# Altium integrated library ON Semi ESD Protection Diodes & Arrays.IntLib: 286 symbols (part 3 of 8)
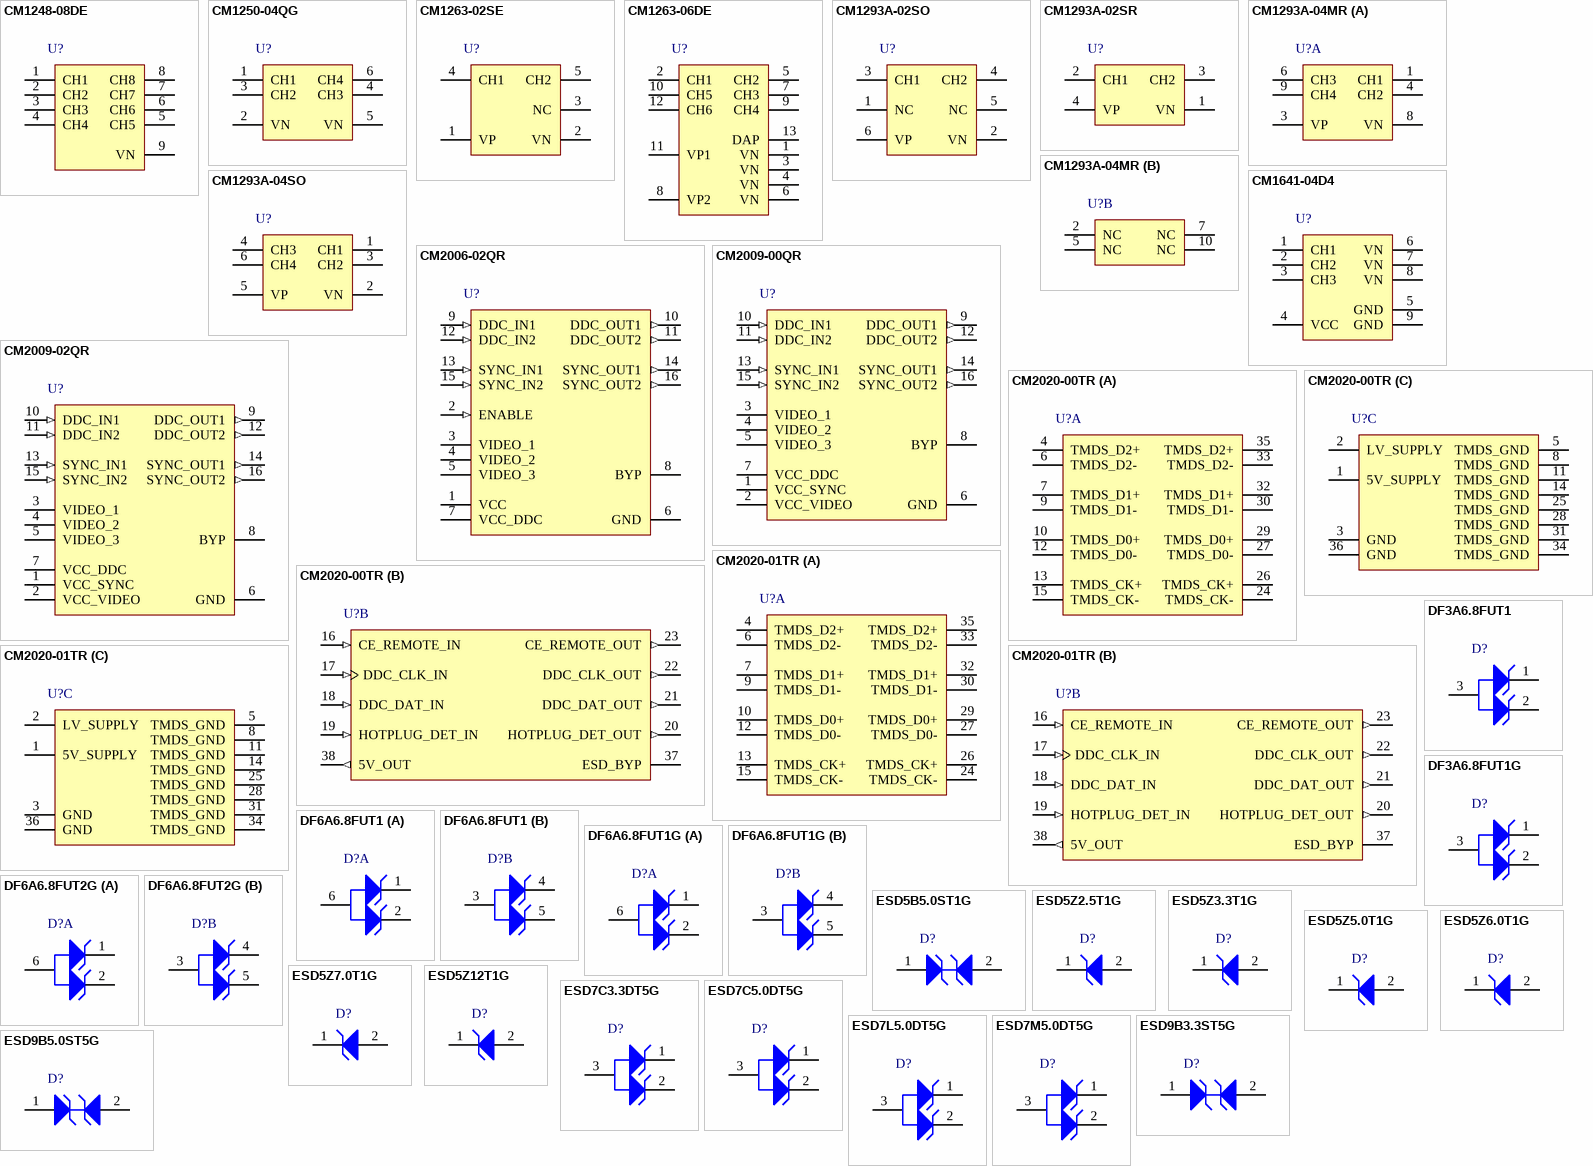
[diagram p9: symbols CM1248-08DE to ESD9B5.0ST5G]

## ESD5Z12T1G
designator D?
Transient Voltage Suppressor, Micro-Packaged Diode for ESD Protection, 2-Pin SOD-523, Pb-Free, Tape and Reel; Manufacturer: On Semiconductor; PartNumber: ESD5Z12T1G; Direction: Unidirectional; IR Max (uA): 0.01; Number of Lines: 1; PPK Max (W): 240; V(BR) Min (V): 14.1; VRWM Max (V): 12; DatasheetVersion: Rev. 10; PackageVersion: Rev. E, 09/2010; PackageReference: SOD-523-2-502-01; PackageDescription: 2-Pin SOD, Body 1.2 x 0.8 mm; Supplier 1: Digi-Key; Supplier Part Number 1: ESD5Z12T1GOSTR-ND; Supplier 2: Digi-Key; Supplier Part Number 2: ESD5Z12T1GOSCT-ND; Supplier 3: Digi-Key; Supplier Part Number 3: ESD5Z12T1GOSDKR-ND; Supplier 4: Farnell; Supplier Part Number 4: 2317796; Supplier 5: Newark; Supplier Part Number 5: 60K9544; Supplier 6: Newark; Supplier Part Number 6: 10N9402; Supplier 7: Mouser; Supplier Part Number 7: 863-ESD5Z12T1G; Packing: Tape and Reel; RoHS: Pb-Free; Mounting Technology: Surface Mount; ComponentLink1Description: Manufacturer URL; ComponentLink1URL: http://www.onsemi.com/; ComponentLink2Description: Datasheet; ComponentLink2URL: http://www.onsemi.cn/pub_link/Collateral/ESD5Z2.5T1-D.PDF; ComponentLink3Description: Package Specification; ComponentLink3URL: http://www.onsemi.com/pub_link/Collateral/502-01.PDF
footprint ONSC-SOD-523-2-502-01_V (SOD, 2-Leads, Body 1.2x0.8mm)
pins: 1 K, 2 A

## ESD7C3.3DT5G
designator D?
Transient Voltage Suppressor, Micro-Packaged Diode for ESD Protection, 3-Pin SOT-723, Pb-Free, Tape and Reel; Manufacturer: On Semiconductor; PartNumber: ESD7C3.3DT5G; C Max (pF): 13; Direction: Unidirectional; IR Max (uA): 1; Number of Lines: 2; V(BR) Min (V): 5; VRWM Max (V): 3.3; DatasheetVersion: Rev. 3; PackageVersion: Rev. D, 08/2009; PackageReference: SOT-723-3-631AA-01; PackageDescription: 3-Pin Small Outline Transistor, Body 1.2 x 0.8 mm, Pitch 0.4 mm; Supplier 1: Digi-Key; Supplier Part Number 1: ESD7C3.3DT5GOSTR-ND; Supplier 2: Digi-Key; Supplier Part Number 2: ESD7C3.3DT5GOSCT-ND; Supplier 3: Digi-Key; Supplier Part Number 3: ESD7C3.3DT5GOSDKR-ND; Supplier 4: Farnell; Supplier Part Number 4: 1468014; Supplier 5: Newark; Supplier Part Number 5: 50M3791; Supplier 6: Mouser; Supplier Part Number 6: 863-ESD7C3.3DT5G; Packing: Tape and Reel; RoHS: Pb-Free; Mounting Technology: Surface Mount; ComponentLink1Description: Manufacturer URL; ComponentLink1URL: http://www.onsemi.com/; ComponentLink2Description: Datasheet; ComponentLink2URL: http://www.onsemi.cn/pub_link/Collateral/ESD7C3.3D-D.PDF; ComponentLink3Description: Package Specification; ComponentLink3URL: http://www.onsemi.com/pub_link/Collateral/631AA.PDF
footprint ONSC-SOT-723-3-631AA-01_V (SOT223, 3-Leads, Body 1.2x0.8mm, Pitch 0.4mm)
pins: 1 K1, 2 K2, 3 A

## ESD7C5.0DT5G
designator D?
Transient Voltage Suppressor, Micro-Packaged Diode for ESD Protection, 3-Pin SOT-723, Pb-Free, Tape and Reel; Manufacturer: On Semiconductor; PartNumber: ESD7C5.0DT5G; C Max (pF): 6.2; Direction: Unidirectional; IR Max (uA): 0.5; Number of Lines: 2; V(BR) Min (V): 11; VRWM Max (V): 5; DatasheetVersion: Rev. 3; PackageVersion: Rev. D, 08/2009; PackageReference: SOT-723-3-631AA-01; PackageDescription: 3-Pin Small Outline Transistor, Body 1.2 x 0.8 mm, Pitch 0.4 mm; Supplier 1: Digi-Key; Supplier Part Number 1: ESD7C5.0DT5GOSTR-ND; Supplier 2: Digi-Key; Supplier Part Number 2: ESD7C5.0DT5GOSCT-ND; Supplier 3: Digi-Key; Supplier Part Number 3: ESD7C5.0DT5GOSDKR-ND; Supplier 4: Farnell; Supplier Part Number 4: 1468015; Supplier 5: Newark; Supplier Part Number 5: 50M3792; Supplier 6: Mouser; Supplier Part Number 6: 863-ESD7C5.0DT5G; Packing: Tape and Reel; RoHS: Pb-Free; Mounting Technology: Surface Mount; ComponentLink1Description: Manufacturer URL; ComponentLink1URL: http://www.onsemi.com/; ComponentLink2Description: Datasheet; ComponentLink2URL: http://www.onsemi.cn/pub_link/Collateral/ESD7C3.3D-D.PDF; ComponentLink3Description: Package Specification; ComponentLink3URL: http://www.onsemi.com/pub_link/Collateral/631AA.PDF
footprint ONSC-SOT-723-3-631AA-01_V (SOT223, 3-Leads, Body 1.2x0.8mm, Pitch 0.4mm)
pins: 1 K1, 2 K2, 3 A

## ESD7L5.0DT5G
designator D?
Transient Voltage Suppressor, ESD Protection Diode with Ultra-Low Capacitance, 3-Pin SOT-723, Pb-Free, Tape and Reel; Manufacturer: On Semiconductor; PartNumber: ESD7L5.0DT5G; Direction: Unidirectional; IR Max (uA): 1; Number of Lines: 2; V(BR) Min (V): 5.4; VRWM Max (V): 5; DatasheetVersion: Rev. 6; PackageVersion: Rev. D, 08/2009; PackageReference: SOT-723-3-631AA-01; PackageDescription: 3-Pin Small Outline Transistor, Body 1.2 x 0.8 mm, Pitch 0.4 mm; Supplier 1: Digi-Key; Supplier Part Number 1: ESD7L5.0DT5GOSTR-ND; Supplier 2: Digi-Key; Supplier Part Number 2: ESD7L5.0DT5GOSCT-ND; Supplier 3: Digi-Key; Supplier Part Number 3: ESD7L5.0DT5GOSDKR-ND; Supplier 4: Farnell; Supplier Part Number 4: 2101216; Supplier 5: Newark; Supplier Part Number 5: 01P0129; Supplier 6: Mouser; Supplier Part Number 6: 863-ESD7L5.0DT5G; Packing: Tape and Reel; RoHS: Pb-Free; Mounting Technology: Surface Mount; ComponentLink1Description: Manufacturer URL; ComponentLink1URL: http://www.onsemi.com/; ComponentLink2Description: Datasheet; ComponentLink2URL: http://www.onsemi.cn/pub_link/Collateral/ESD7L-D.PDF; ComponentLink3Description: Package Specification; ComponentLink3URL: http://www.onsemi.com/pub_link/Collateral/631AA.PDF
footprint ONSC-SOT-723-3-631AA-01_V (SOT223, 3-Leads, Body 1.2x0.8mm, Pitch 0.4mm)
pins: 1 K1, 2 K2, 3 A

## ESD7M5.0DT5G
designator D?
Transient Voltage Suppressor, ESD Protection Diode with Ultra-Low Capacitance, 3-Pin SOT-723, Pb-Free, Tape and Reel; Manufacturer: On Semiconductor; PartNumber: ESD7M5.0DT5G; Direction: Unidirectional; IR Max (uA): 1; Number of Lines: 2; V(BR) Min (V): 5.4; VRWM Max (V): 5; DatasheetVersion: Rev. 4; PackageVersion: Rev. D, 08/2009; PackageReference: SOT-723-3-631AA-01; PackageDescription: 3-Pin Small Outline Transistor, Body 1.2 x 0.8 mm, Pitch 0.4 mm; Supplier 1: Digi-Key; Supplier Part Number 1: ESD7M5.0DT5G-ND; Supplier 2: Newark; Supplier Part Number 2: 01P4983; Supplier 3: Mouser; Supplier Part Number 3: 863-ESD7M5.0DT5G; Packing: Tape and Reel; RoHS: Pb-Free; Mounting Technology: Surface Mount; ComponentLink1Description: Manufacturer URL; ComponentLink1URL: http://www.onsemi.com/; ComponentLink2Description: Datasheet; ComponentLink2URL: http://www.onsemi.cn/pub_link/Collateral/ESD7M5.0D-D.PDF; ComponentLink3Description: Package Specification; ComponentLink3URL: http://www.onsemi.com/pub_link/Collateral/631AA.PDF
footprint ONSC-SOT-723-3-631AA-01_V (SOT223, 3-Leads, Body 1.2x0.8mm, Pitch 0.4mm)
pins: 1 K1, 2 K2, 3 A

## ESD9B3.3ST5G
designator D?
Transient Voltage Suppressor, Micro-Packaged Diode for ESD Protection, 2-Pin SOD-923, Pb-Free, Tape and Reel; Manufacturer: On Semiconductor; PartNumber: ESD9B3.3ST5G; Direction: Bidirectional; IR Max (uA): 1; V(BR) Min (V): 5; VRWM Max (V): 3.3; DatasheetVersion: Rev. 2; PackageVersion: Rev. C, 03/2011; PackageReference: SOD-923-2-514AB-01; PackageDescription: 2-Pin SOD, Body 0.8 x 0.6 mm; Supplier 1: Digi-Key; Supplier Part Number 1: ESD9B3.3ST5GOSTR-ND; Supplier 2: Digi-Key; Supplier Part Number 2: ESD9B3.3ST5GOSCT-ND; Supplier 3: Digi-Key; Supplier Part Number 3: ESD9B3.3ST5GOSDKR-ND; Supplier 4: Farnell; Supplier Part Number 4: 2317522; Supplier 5: Farnell; Supplier Part Number 5: 2317797; Supplier 6: Newark; Supplier Part Number 6: 13P3801; Supplier 7: Mouser; Supplier Part Number 7: 863-ESD9B3.3ST5G; Number of Lines: 1; Packing: Tape and Reel; RoHS: Pb-Free; Mounting Technology: Surface Mount; ComponentLink1Description: Manufacturer URL; ComponentLink1URL: http://www.onsemi.com/; ComponentLink2Description: Datasheet; ComponentLink2URL: http://www.onsemi.cn/pub_link/Collateral/ESD9B-D.PDF; ComponentLink3Description: Package Specification; ComponentLink3URL: http://www.onsemi.com/pub_link/Collateral/514AB.PDF
footprint ONSC-SOD-923-2-514AB-01_V (SOD, 2-Leads, Body 0.8x0.6mm)
pins: 1 A1, 2 A2

## ESD9B5.0ST5G
designator D?
Transient Voltage Suppressor, Micro-Packaged Diode for ESD Protection, 2-Pin SOD-923, Pb-Free, Tape and Reel; Manufacturer: On Semiconductor; PartNumber: ESD9B5.0ST5G; Direction: Bidirectional; IR Max (uA): 1; V(BR) Min (V): 5.8; VRWM Max (V): 5; DatasheetVersion: Rev. 2; PackageVersion: Rev. C, 03/2011; PackageReference: SOD-923-2-514AB-01; PackageDescription: 2-Pin SOD, Body 0.8 x 0.6 mm; Supplier 1: Digi-Key; Supplier Part Number 1: ESD9B5.0ST5GOSTR-ND; Supplier 2: Digi-Key; Supplier Part Number 2: ESD9B5.0ST5GOSCT-ND; Supplier 3: Digi-Key; Supplier Part Number 3: ESD9B5.0ST5GOSDKR-ND; Supplier 4: Farnell; Supplier Part Number 4: 2101834; Supplier 5: Newark; Supplier Part Number 5: 50M3793; Supplier 6: Mouser; Supplier Part Number 6: 863-ESD9B5.0ST5G; Number of Lines: 1; Packing: Tape and Reel; RoHS: Pb-Free; Mounting Technology: Surface Mount; ComponentLink1Description: Manufacturer URL; ComponentLink1URL: http://www.onsemi.com/; ComponentLink2Description: Datasheet; ComponentLink2URL: http://www.onsemi.cn/pub_link/Collateral/ESD9B-D.PDF; ComponentLink3Description: Package Specification; ComponentLink3URL: http://www.onsemi.com/pub_link/Collateral/514AB.PDF
footprint ONSC-SOD-923-2-514AB-01_V (SOD, 2-Leads, Body 0.8x0.6mm)
pins: 1 A1, 2 A2

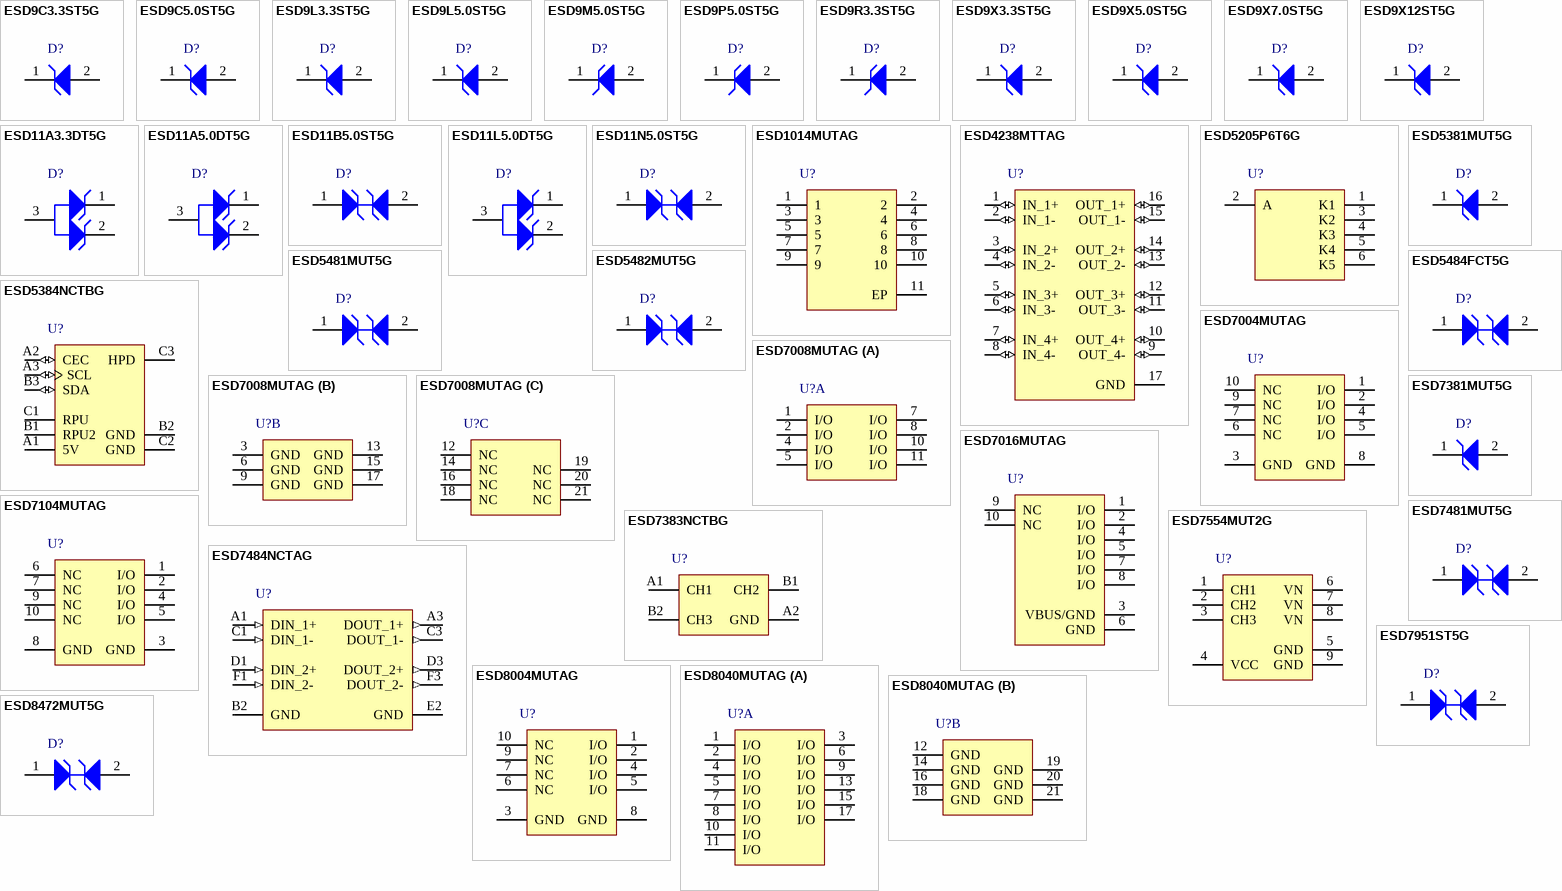
[diagram p2: symbols ESD9C3.3ST5G to ESD8472MUT5G]

## ESD9C3.3ST5G
designator D?
Transient Voltage Suppressor, Micro-Packaged Diode for ESD Protection, 2-Pin SOD-923, Pb-Free, Tape and Reel; Manufacturer: On Semiconductor; PartNumber: ESD9C3.3ST5G; C Max (pF): 13; Direction: Unidirectional; IR Max (uA): 1; V(BR) Min (V): 5; VRWM Max (V): 3.3; DatasheetVersion: Rev. 3; PackageVersion: Rev. C, 03/2011; PackageReference: SOD-923-2-514AB-01; PackageDescription: 2-Pin SOD, Body 0.8 x 0.6 mm; Supplier 1: Digi-Key; Supplier Part Number 1: ESD9C3.3ST5GOSTR-ND; Supplier 2: Digi-Key; Supplier Part Number 2: ESD9C3.3ST5GOSCT-ND; Supplier 3: Digi-Key; Supplier Part Number 3: ESD9C3.3ST5GOSDKR-ND; Supplier 4: Farnell; Supplier Part Number 4: 1468018; Supplier 5: Newark; Supplier Part Number 5: 50M3794; Supplier 6: Mouser; Supplier Part Number 6: 863-ESD9C3.3ST5G; Number of Lines: 1; Packing: Tape and Reel; RoHS: Pb-Free; Mounting Technology: Surface Mount; ComponentLink1Description: Manufacturer URL; ComponentLink1URL: http://www.onsemi.com/; ComponentLink2Description: Datasheet; ComponentLink2URL: http://www.onsemi.cn/pub_link/Collateral/ESD9C3.3S-D.PDF; ComponentLink3Description: Package Specification; ComponentLink3URL: http://www.onsemi.com/pub_link/Collateral/514AB.PDF
footprint ONSC-SOD-923-2-514AB-01_V (SOD, 2-Leads, Body 0.8x0.6mm)
pins: 1 K, 2 A

## ESD9C5.0ST5G
designator D?
Transient Voltage Suppressor, Micro-Packaged Diode for ESD Protection, 2-Pin SOD-923, Pb-Free, Tape and Reel; Manufacturer: On Semiconductor; PartNumber: ESD9C5.0ST5G; C Max (pF): 6.2; Direction: Unidirectional; IR Max (uA): 0.5; Number of Lines: 1; V(BR) Min (V): 11; VRWM Max (V): 5; DatasheetVersion: Rev. 3; PackageVersion: Rev. C, 03/2011; PackageReference: SOD-923-2-514AB-01; PackageDescription: 2-Pin SOD, Body 0.8 x 0.6 mm; Supplier 1: Digi-Key; Supplier Part Number 1: ESD9C5.0ST5GOSTR-ND; Supplier 2: Digi-Key; Supplier Part Number 2: ESD9C5.0ST5GOSCT-ND; Supplier 3: Digi-Key; Supplier Part Number 3: ESD9C5.0ST5GOSDKR-ND; Supplier 4: Farnell; Supplier Part Number 4: 1468019; Supplier 5: Newark; Supplier Part Number 5: 50M3795; Supplier 6: Mouser; Supplier Part Number 6: 863-ESD9C5.0ST5G; Packing: Tape and Reel; RoHS: Pb-Free; Mounting Technology: Surface Mount; ComponentLink1Description: Manufacturer URL; ComponentLink1URL: http://www.onsemi.com/; ComponentLink2Description: Datasheet; ComponentLink2URL: http://www.onsemi.cn/pub_link/Collateral/ESD9C3.3S-D.PDF; ComponentLink3Description: Package Specification; ComponentLink3URL: http://www.onsemi.com/pub_link/Collateral/514AB.PDF
footprint ONSC-SOD-923-2-514AB-01_V (SOD, 2-Leads, Body 0.8x0.6mm)
pins: 1 K, 2 A

## ESD9L3.3ST5G
designator D?
Transient Voltage Suppressor, ESD Protection Diode with Ultra-Low Capacitance, 2-Pin SOD-923, Pb-Free, Tape and Reel; Manufacturer: On Semiconductor; PartNumber: ESD9L3.3ST5G; C Max (pF): 0.9; Direction: Unidirectional; IR Max (uA): 1; V(BR) Min (V): 4.8; VRWM Max (V): 3.3; DatasheetVersion: Rev. 5; PackageVersion: Rev. C, 03/2011; PackageReference: SOD-923-2-514AB-01; PackageDescription: 2-Pin SOD, Body 0.8 x 0.6 mm; Supplier 1: Digi-Key; Supplier Part Number 1: ESD9L3.3ST5GOSTR-ND; Supplier 2: Digi-Key; Supplier Part Number 2: ESD9L3.3ST5GOSCT-ND; Supplier 3: Digi-Key; Supplier Part Number 3: ESD9L3.3ST5GOSDKR-ND; Supplier 4: Newark; Supplier Part Number 4: 01P4984; Supplier 5: Mouser; Supplier Part Number 5: 863-ESD9L3.3ST5G; Number of Lines: 1; Packing: Tape and Reel; RoHS: Pb-Free; Mounting Technology: Surface Mount; ComponentLink1Description: Manufacturer URL; ComponentLink1URL: http://www.onsemi.com/; ComponentLink2Description: Datasheet; ComponentLink2URL: http://www.onsemi.cn/pub_link/Collateral/ESD9L-D.PDF; ComponentLink3Description: Package Specification; ComponentLink3URL: http://www.onsemi.com/pub_link/Collateral/514AB.PDF
footprint ONSC-SOD-923-2-514AB-01_V (SOD, 2-Leads, Body 0.8x0.6mm)
pins: 1 K, 2 A

## ESD9L5.0ST5G
designator D?
Transient Voltage Suppressor, ESD Protection Diode with Ultra-Low Capacitance, 2-Pin SOD-923, Pb-Free, Tape and Reel; Manufacturer: On Semiconductor; PartNumber: ESD9L5.0ST5G; C Max (pF): 0.9; Direction: Unidirectional; IR Max (uA): 1; V(BR) Min (V): 5.4; VRWM Max (V): 5; DatasheetVersion: Rev. 5; PackageVersion: Rev. C, 03/2011; PackageReference: SOD-923-2-514AB-01; PackageDescription: 2-Pin SOD, Body 0.8 x 0.6 mm; Supplier 1: Digi-Key; Supplier Part Number 1: ESD9L5.0ST5GOSTR-ND; Supplier 2: Digi-Key; Supplier Part Number 2: ESD9L5.0ST5GOSCT-ND; Supplier 3: Digi-Key; Supplier Part Number 3: ESD9L5.0ST5GOSDKR-ND; Supplier 4: Farnell; Supplier Part Number 4: 1651639; Supplier 5: Farnell; Supplier Part Number 5: 1651639RL; Supplier 6: Newark; Supplier Part Number 6: 55M8768; Supplier 7: Mouser; Supplier Part Number 7: 863-ESD9L5.0ST5G; Number of Lines: 1; Packing: Tape and Reel; RoHS: Pb-Free; Mounting Technology: Surface Mount; ComponentLink1Description: Manufacturer URL; ComponentLink1URL: http://www.onsemi.com/; ComponentLink2Description: Datasheet; ComponentLink2URL: http://www.onsemi.cn/pub_link/Collateral/ESD9L-D.PDF; ComponentLink3Description: Package Specification; ComponentLink3URL: http://www.onsemi.com/pub_link/Collateral/514AB.PDF
footprint ONSC-SOD-923-2-514AB-01_V (SOD, 2-Leads, Body 0.8x0.6mm)
pins: 1 K, 2 A

## ESD9M5.0ST5G
designator D?
Transient Voltage Suppressor, ESD Protection Diode with Ultra-Low Capacitance, 2-Pin SOD-923, Pb-Free, Tape and Reel; Manufacturer: On Semiconductor; PartNumber: ESD9M5.0ST5G; C Max (pF): 2.5; Direction: Unidirectional; IR Max (uA): 1; V(BR) Min (V): 5.8; VRWM Max (V): 5; DatasheetVersion: Rev. 5; PackageVersion: Rev. C, 03/2011; PackageReference: SOD-923-2-514AB-01; PackageDescription: 2-Pin SOD, Body 0.8 x 0.6 mm; Supplier 1: Digi-Key; Supplier Part Number 1: ESD9M5.0ST5G-ND; Supplier 2: Mouser; Supplier Part Number 2: 863-ESD9M5.0ST5G; Number of Lines: 1; Packing: Tape and Reel; RoHS: Pb-Free; Mounting Technology: Surface Mount; ComponentLink1Description: Manufacturer URL; ComponentLink1URL: http://www.onsemi.com/; ComponentLink2Description: Datasheet; ComponentLink2URL: http://www.onsemi.cn/pub_link/Collateral/ESD9M5.0S-D.PDF; ComponentLink3Description: Package Specification; ComponentLink3URL: http://www.onsemi.com/pub_link/Collateral/514AB.PDF
footprint ONSC-SOD-923-2-514AB-01_V (SOD, 2-Leads, Body 0.8x0.6mm)
pins: 1 K, 2 A

## ESD9P5.0ST5G
designator D?
Transient Voltage Suppressor, ESD Protection Diode with Ultra-Low Capacitance, 2-Pin SOD-923, Pb-Free, Tape and Reel; Manufacturer: On Semiconductor; PartNumber: ESD9P5.0ST5G; C Max (pF): 1.3; Direction: Unidirectional; IR Max (uA): 1; V(BR) Min (V): 5.8; VRWM Max (V): 5; DatasheetVersion: Rev. 1; PackageVersion: Rev. C, 03/2011; PackageReference: SOD-923-2-514AB-01; PackageDescription: 2-Pin SOD, Body 0.8 x 0.6 mm; Supplier 1: Digi-Key; Supplier Part Number 1: ESD9P5.0ST5GOSTR-ND; Supplier 2: Digi-Key; Supplier Part Number 2: ESD9P5.0ST5GOSCT-ND; Supplier 3: Digi-Key; Supplier Part Number 3: ESD9P5.0ST5GOSDKR-ND; Supplier 4: Mouser; Supplier Part Number 4: 863-ESD9P5.0ST5G; Number of Lines: 1; Packing: Tape and Reel; RoHS: Pb-Free; Mounting Technology: Surface Mount; ComponentLink1Description: Manufacturer URL; ComponentLink1URL: http://www.onsemi.com/; ComponentLink2Description: Datasheet; ComponentLink2URL: http://www.onsemi.cn/pub_link/Collateral/ESD9P5.0S-D.PDF; ComponentLink3Description: Package Specification; ComponentLink3URL: http://www.onsemi.com/pub_link/Collateral/514AB.PDF
footprint ONSC-SOD-923-2-514AB-01_V (SOD, 2-Leads, Body 0.8x0.6mm)
pins: 1 K, 2 A

## ESD9R3.3ST5G
designator D?
Transient Voltage Suppressor, ESD Protection Diode with Ultra-Low Leakage, 2-Pin SOD-923, Pb-Free, Tape and Reel; Manufacturer: On Semiconductor; PartNumber: ESD9R3.3ST5G; C Max (pF): 0.9; Direction: Unidirectional; IR Max (uA): 0.001; Number of Lines: 1; V(BR) Min (V): 4.8; VRWM Max (V): 3.3; DatasheetVersion: Rev. 1; PackageVersion: Rev. C, 03/2011; PackageReference: SOD-923-2-514AB-01; PackageDescription: 2-Pin SOD, Body 0.8 x 0.6 mm; Supplier 1: Digi-Key; Supplier Part Number 1: ESD9R3.3ST5GOSTR-ND; Supplier 2: Digi-Key; Supplier Part Number 2: ESD9R3.3ST5GOSCT-ND; Supplier 3: Digi-Key; Supplier Part Number 3: ESD9R3.3ST5GOSDKR-ND; Supplier 4: Farnell; Supplier Part Number 4: 2101835; Supplier 5: Mouser; Supplier Part Number 5: 863-ESD9R3.3ST5G; Packing: Tape and Reel; RoHS: Pb-Free; Mounting Technology: Surface Mount; ComponentLink1Description: Manufacturer URL; ComponentLink1URL: http://www.onsemi.com/; ComponentLink2Description: Datasheet; ComponentLink2URL: http://www.onsemi.com/pub_link/Collateral/ESD9R3.3S-D.PDF; ComponentLink3Description: Package Specification; ComponentLink3URL: http://www.onsemi.com/pub_link/Collateral/514AB.PDF
footprint ONSC-SOD-923-2-514AB-01_V (SOD, 2-Leads, Body 0.8x0.6mm)
pins: 1 K, 2 A

## ESD9X3.3ST5G
designator D?
Transient Voltage Suppressor, Micro-Packaged Diode for ESD Protection, 2-Pin SOD-923, Pb-Free, Tape and Reel; Manufacturer: On Semiconductor; PartNumber: ESD9X3.3ST5G; Direction: Unidirectional; IR Max (uA): 2.5; Number of Lines: 1; V(BR) Min (V): 5; VRWM Max (V): 3.3; DatasheetVersion: Rev. 7; PackageVersion: Rev. E, 03/2011; PackageReference: SOD-923-2-514AA-01; PackageDescription: 2-Pin SOD, Body 0.8 x 0.6 mm; Supplier 1: Digi-Key; Supplier Part Number 1: ESD9X3.3ST5GOSTR-ND; Supplier 2: Digi-Key; Supplier Part Number 2: ESD9X3.3ST5GOSCT-ND; Supplier 3: Digi-Key; Supplier Part Number 3: ESD9X3.3ST5GOSDKR-ND; Supplier 4: Newark; Supplier Part Number 4: 96K3041; Supplier 5: Mouser; Supplier Part Number 5: 863-ESD9X3.3ST5G; Packing: Tape and Reel; RoHS: Pb-Free; Mounting Technology: Surface Mount; ComponentLink1Description: Manufacturer URL; ComponentLink1URL: http://www.onsemi.com/; ComponentLink2Description: Datasheet; ComponentLink2URL: http://www.onsemi.cn/pub_link/Collateral/ESD9X3.3ST5G-D.PDF; ComponentLink3Description: Package Specification; ComponentLink3URL: http://www.onsemi.com/pub_link/Collateral/514AA.PDF
footprint ONSC-SOD-923-2-514AA-01_V (SOD, 2-Leads, Body 0.8x0.6mm)
pins: 1 K, 2 A

## ESD9X5.0ST5G
designator D?
Transient Voltage Suppressor, Micro-Packaged Diode for ESD Protection, 2-Pin SOD-923, Pb-Free, Tape and Reel; Manufacturer: On Semiconductor; PartNumber: ESD9X5.0ST5G; Direction: Unidirectional; IR Max (uA): 1; V(BR) Min (V): 6.2; VRWM Max (V): 5; DatasheetVersion: Rev. 7; PackageVersion: Rev. E, 03/2011; PackageReference: SOD-923-2-514AA-01; PackageDescription: 2-Pin SOD, Body 0.8 x 0.6 mm; Supplier 1: Digi-Key; Supplier Part Number 1: ESD9X5.0ST5GOSTR-ND; Supplier 2: Digi-Key; Supplier Part Number 2: ESD9X5.0ST5GOSCT-ND; Supplier 3: Digi-Key; Supplier Part Number 3: ESD9X5.0ST5GOSDKR-ND; Supplier 4: Newark; Supplier Part Number 4: 02M9631; Supplier 5: Mouser; Supplier Part Number 5: 863-ESD9X5.0ST5G; Number of Lines: 1; Packing: Tape and Reel; RoHS: Pb-Free; Mounting Technology: Surface Mount; ComponentLink1Description: Manufacturer URL; ComponentLink1URL: http://www.onsemi.com/; ComponentLink2Description: Datasheet; ComponentLink2URL: http://www.onsemi.cn/pub_link/Collateral/ESD9X3.3ST5G-D.PDF; ComponentLink3Description: Package Specification; ComponentLink3URL: http://www.onsemi.com/pub_link/Collateral/514AA.PDF
footprint ONSC-SOD-923-2-514AA-01_V (SOD, 2-Leads, Body 0.8x0.6mm)
pins: 1 K, 2 A

## ESD9X7.0ST5G
designator D?
Transient Voltage Suppressor, Micro-Packaged Diode for ESD Protection, 2-Pin SOD-923, Pb-Free, Tape and Reel; Manufacturer: On Semiconductor; PartNumber: ESD9X7.0ST5G; Direction: Unidirectional; IR Max (uA): 0.1; Number of Lines: 1; V(BR) Min (V): 7.5; VRWM Max (V): 7; DatasheetVersion: Rev. 7; PackageVersion: Rev. E, 03/2011; PackageReference: SOD-923-2-514AA-01; PackageDescription: 2-Pin SOD, Body 0.8 x 0.6 mm; Supplier 1: Digi-Key; Supplier Part Number 1: ESD9X7.0ST5G-ND; Supplier 2: Newark; Supplier Part Number 2: 13P3803; Supplier 3: Mouser; Supplier Part Number 3: 863-ESD9X7.0ST5G; Packing: Tape and Reel; RoHS: Pb-Free; Mounting Technology: Surface Mount; ComponentLink1Description: Manufacturer URL; ComponentLink1URL: http://www.onsemi.com/; ComponentLink2Description: Datasheet; ComponentLink2URL: http://www.onsemi.cn/pub_link/Collateral/ESD9X3.3ST5G-D.PDF; ComponentLink3Description: Package Specification; ComponentLink3URL: http://www.onsemi.com/pub_link/Collateral/514AA.PDF
footprint ONSC-SOD-923-2-514AA-01_V (SOD, 2-Leads, Body 0.8x0.6mm)
pins: 1 K, 2 A

## ESD9X12ST5G
designator D?
Transient Voltage Suppressor, Micro-Packaged Diode for ESD Protection, 2-Pin SOD-923, Pb-Free, Tape and Reel; Manufacturer: On Semiconductor; PartNumber: ESD9X12ST5G; Direction: Unidirectional; IR Max (uA): 1; PPK Max (W): 140; V(BR) Min (V): 13.5; VRWM Max (V): 12; DatasheetVersion: Rev. 7; PackageVersion: Rev. E, 03/2011; PackageReference: SOD-923-2-514AA-01; PackageDescription: 2-Pin SOD, Body 0.8 x 0.6 mm; Supplier 1: Digi-Key; Supplier Part Number 1: ESD9X12ST5GOSTR-ND; Supplier 2: Digi-Key; Supplier Part Number 2: ESD9X12ST5GOSCT-ND; Supplier 3: Digi-Key; Supplier Part Number 3: ESD9X12ST5GOSDKR-ND; Supplier 4: Newark; Supplier Part Number 4: 02M9630; Supplier 5: Mouser; Supplier Part Number 5: 863-ESD9X12ST5G; Number of Lines: 1; Packing: Tape and Reel; RoHS: Pb-Free; Mounting Technology: Surface Mount; ComponentLink1Description: Manufacturer URL; ComponentLink1URL: http://www.onsemi.com/; ComponentLink2Description: Datasheet; ComponentLink2URL: http://www.onsemi.com/pub_link/Collateral/ESD9X3.3ST5G-D.PDF; ComponentLink3Description: Package Specification; ComponentLink3URL: http://www.onsemi.com/pub_link/Collateral/514AA.PDF
footprint ONSC-SOD-923-2-514AA-01_V (SOD, 2-Leads, Body 0.8x0.6mm)
pins: 1 K, 2 A

## ESD11A3.3DT5G
designator D?
Transient Voltage Suppressor, ESD Protection Diode, 3-Pin SOT-1123, Pb-Free, Tape and Reel; Manufacturer: On Semiconductor; PartNumber: ESD11A3.3DT5G; C Max (pF): 35; Direction: Unidirectional; IR Max (uA): 1; Number of Lines: 2; V(BR) Min (V): 5.2; VRWM Max (V): 3.3; DatasheetVersion: Rev. 3; PackageVersion: Rev. C, 11/2011; PackageReference: SOT-1123-3-524AA; PackageDescription: 3-Pin Small Outline Transistor, Body 0.8 x 0.6 mm, Pitch 0.375 mm; Supplier 1: Digi-Key; Supplier Part Number 1: ESD11A3.3DT5G-ND; Supplier 2: Mouser; Supplier Part Number 2: 863-ESD11A3.3DT5G; Packing: Tape and Reel; RoHS: Pb-Free; Mounting Technology: Surface Mount; ComponentLink1Description: Manufacturer URL; ComponentLink1URL: http://www.onsemi.com/; ComponentLink2Description: Datasheet; ComponentLink2URL: http://www.onsemi.cn/pub_link/Collateral/ESD11A3.3D-D.PDF; ComponentLink3Description: Package Specification; ComponentLink3URL: http://www.onsemi.cn/pub_link/Collateral/524AA.PDF
footprint ONSC-SOT-1123-3-524AA_V (SOT223, 3-Leads, Body 0.8x0.6mm, Pitch 0.38mm)
pins: 1 K1, 2 K2, 3 A

## ESD11A5.0DT5G
designator D?
Transient Voltage Suppressor, ESD Protection Diode, 3-Pin SOT-1123, Pb-Free, Tape and Reel; Manufacturer: On Semiconductor; PartNumber: ESD11A5.0DT5G; C Max (pF): 30; Direction: Unidirectional; IR Max (uA): 0.1; Number of Lines: 2; V(BR) Min (V): 6.2; VRWM Max (V): 5; DatasheetVersion: Rev. 3; PackageVersion: Rev. C, 11/2011; PackageReference: SOT-1123-3-524AA; PackageDescription: 3-Pin Small Outline Transistor, Body 0.8 x 0.6 mm, Pitch 0.375 mm; Supplier 1: Digi-Key; Supplier Part Number 1: ESD11A5.0DT5G-ND; Supplier 2: Newark; Supplier Part Number 2: 71R5317; Supplier 3: Mouser; Supplier Part Number 3: 863-ESD11A5.0DT5G; Packing: Tape and Reel; RoHS: Pb-Free; Mounting Technology: Surface Mount; ComponentLink1Description: Manufacturer URL; ComponentLink1URL: http://www.onsemi.com/; ComponentLink2Description: Datasheet; ComponentLink2URL: http://www.onsemi.cn/pub_link/Collateral/ESD11A3.3D-D.PDF; ComponentLink3Description: Package Specification; ComponentLink3URL: http://www.onsemi.cn/pub_link/Collateral/524AA.PDF
footprint ONSC-SOT-1123-3-524AA_V (SOT223, 3-Leads, Body 0.8x0.6mm, Pitch 0.38mm)
pins: 1 K1, 2 K2, 3 A

## ESD11B5.0ST5G
designator D?
Transient Voltage Suppressor, Micro-Packaged Diode for ESD Protection, 2-Pin DSN, Pb-Free, Tape and Reel; Manufacturer: On Semiconductor; PartNumber: ESD11B5.0ST5G; C Max (pF): 13.5; Direction: Bidirectional; IR Max (uA): 1; V(BR) Min (V): 5.8; VRWM Max (V): 5; DatasheetVersion: Rev. 6; PackageVersion: Rev. A, 11/2011; PackageReference: DSN-2-152AA; PackageDescription: 2-Pin Micro Molded Package, Body 0.3 x 0.6 mm, Pitch 0.4 mm; Supplier 1: Digi-Key; Supplier Part Number 1: ESD11B5.0ST5GOSTR-ND; Supplier 2: Digi-Key; Supplier Part Number 2: ESD11B5.0ST5GOSCT-ND; Supplier 3: Digi-Key; Supplier Part Number 3: ESD11B5.0ST5GOSDKR-ND; Supplier 4: Mouser; Supplier Part Number 4: 863-ESD11B5.0ST5G; Number of Lines: 1; Packing: Tape and Reel; RoHS: Pb-Free; Mounting Technology: Surface Mount; ComponentLink1Description: Manufacturer URL; ComponentLink1URL: http://www.onsemi.com/; ComponentLink2Description: Datasheet; ComponentLink2URL: http://www.onsemi.cn/pub_link/Collateral/ESD11B-D.PDF; ComponentLink3Description: Package Specification; ComponentLink3URL: http://www.onsemi.com/pub_link/Collateral/152AA.PDF
footprint ONSC-DSN-2-152AA_V (DSN, 2-Leads, Body 0.6x0.3mm, Pitch 0.47mm)
pins: 1 A1, 2 A2

## ESD11L5.0DT5G
designator D?
Transient Voltage Suppressor, ESD Protection Diode with Ultra-Low Capacitance, 3-Pin SOT-1123, Pb-Free, Tape and Reel; Manufacturer: On Semiconductor; PartNumber: ESD11L5.0DT5G; Direction: Unidirectional; IR Max (uA): 1; Number of Lines: 2; V(BR) Min (V): 5.4; VRWM Max (V): 5; DatasheetVersion: Rev. 3; PackageVersion: Rev. C, 11/2011; PackageReference: SOT-1123-3-524AA; PackageDescription: 3-Pin Small Outline Transistor, Body 0.8 x 0.6 mm, Pitch 0.375 mm; Supplier 1: Digi-Key; Supplier Part Number 1: ESD11L5.0DT5G-ND; Supplier 2: Newark; Supplier Part Number 2: 13P3800; Supplier 3: Mouser; Supplier Part Number 3: 863-ESD11L5.0DT5G; Packing: Tape and Reel; RoHS: Pb-Free; Mounting Technology: Surface Mount; ComponentLink1Description: Manufacturer URL; ComponentLink1URL: http://www.onsemi.com/; ComponentLink2Description: Datasheet; ComponentLink2URL: http://www.onsemi.cn/pub_link/Collateral/ESD11L5.0D-D.PDF; ComponentLink3Description: Package Specification; ComponentLink3URL: http://www.onsemi.cn/pub_link/Collateral/524AA.PDF
footprint ONSC-SOT-1123-3-524AA_V (SOT223, 3-Leads, Body 0.8x0.6mm, Pitch 0.38mm)
pins: 1 K1, 2 K2, 3 A

## ESD11N5.0ST5G
designator D?
Transient Voltage Suppressor, Micro-Packaged Diode for ESD Protection, 2-Pin DSN, Pb-Free, Tape and Reel; Manufacturer: On Semiconductor; PartNumber: ESD11N5.0ST5G; C Max (pF): 0.9; Direction: Bidirectional; IR Max (uA): 1; V(BR) Min (V): 5.8; VRWM Max (V): 5; DatasheetVersion: Rev. 4; PackageVersion: Rev. A, 11/2011; PackageReference: DSN-2-152AA; PackageDescription: 2-Pin Micro Molded Package, Body 0.3 x 0.6 mm, Pitch 0.4 mm; Supplier 1: Digi-Key; Supplier Part Number 1: ESD11N5.0ST5GOSTR-ND; Supplier 2: Digi-Key; Supplier Part Number 2: ESD11N5.0ST5GOSCT-ND; Supplier 3: Digi-Key; Supplier Part Number 3: ESD11N5.0ST5GOSDKR-ND; Supplier 4: Newark; Supplier Part Number 4: 15R4142; Supplier 5: Mouser; Supplier Part Number 5: 863-ESD11N5.0ST5G; Number of Lines: 1; Packing: Tape and Reel; RoHS: Pb-Free; Mounting Technology: Surface Mount; ComponentLink1Description: Manufacturer URL; ComponentLink1URL: http://www.onsemi.com/; ComponentLink2Description: Datasheet; ComponentLink2URL: http://www.onsemi.cn/pub_link/Collateral/ESD11N5.0S-D.PDF; ComponentLink3Description: Package Specification; ComponentLink3URL: http://www.onsemi.com/pub_link/Collateral/152AA.PDF
footprint ONSC-DSN-2-152AA_V (DSN, 2-Leads, Body 0.6x0.3mm, Pitch 0.47mm)
pins: 1 A1, 2 A2

## ESD1014MUTAG
designator U?
Low Capacitance ESD Protection Array for High Speed Data Lines Protection, 10-Pin UDFN, Pb-Free, Tape and Reel; Manufacturer: On Semiconductor; PartNumber: ESD1014MUTAG; Direction: Bidirectional; IR Max (uA): 5; Number of Lines: 4; PPK Max (W): 450; VRWM Max (V): 3.3; DatasheetVersion: Rev. 5; PackageVersion: Rev. B, 10/2012; PackageReference: UDFN-10-517AN; PackageDescription: 10-Pin Small Outline No-Lead, Body 2.6 x 2.6 mm, Pitch 0.5 mm; Supplier 1: Digi-Key; Supplier Part Number 1: ESD1014MUTAGOSTR-ND; Supplier 2: Digi-Key; Supplier Part Number 2: ESD1014MUTAGOSCT-ND; Supplier 3: Digi-Key; Supplier Part Number 3: ESD1014MUTAGOSDKR-ND; Supplier 4: Farnell; Supplier Part Number 4: 1961707; Supplier 5: Newark; Supplier Part Number 5: 52T7798; Supplier 6: Mouser; Supplier Part Number 6: 863-ESD1014MUTAG; Packing: Tape and Reel; RoHS: Pb-Free; V(BR) Min (V): 5; Mounting Technology: Surface Mount; ComponentLink1Description: Manufacturer URL; ComponentLink1URL: http://www.onsemi.com/; ComponentLink2Description: Datasheet; ComponentLink2URL: http://www.onsemi.cn/pub_link/Collateral/ESD1014-D.PDF; ComponentLink3Description: Package Specification; ComponentLink3URL: http://www.onsemi.cn/pub_link/Collateral/517AN.PDF
footprint ONSC-UDFN-10-517AN_V (SON, 10-Leads, Body 2.6x2.6mm, Pitch 0.5mm, Thermal Pad 2.25x1.42mm)
pins: 1, 2, 3, 4, 5, 6, 7, 8, 9, 10, 11 EP

## ESD4238MTTAG
designator U?
PicoGuard(R) XS Clamp Array with ESD Protection, 16-Pin WDFN, Pb-Free, Tape and Reel; Manufacturer: On Semiconductor; PartNumber: ESD4238MTTAG; Direction: Unidirectional; Number of Lines: 8; DatasheetVersion: Rev. 0; PackageVersion: Rev. O, 07/2010; PackageReference: WDFN-16-511AU-01; PackageDescription: 16-Pin Small Outline No-Lead, Body 4 x 1.6 mm, Pitch 0.5 mm; Supplier 1: Digi-Key; Supplier Part Number 1: ESD4238MTTAG-ND; Supplier 2: Mouser; Supplier Part Number 2: 863-ESD4238MTTAG; Packing: Tape and Reel; RoHS: Pb-Free; Mounting Technology: Surface Mount; ComponentLink1Description: Manufacturer URL; ComponentLink1URL: http://www.onsemi.com/; ComponentLink2Description: Datasheet; ComponentLink2URL: http://www.onsemi.cn/pub_link/Collateral/ESD4238-D.PDF; ComponentLink3Description: Package Specification; ComponentLink3URL: http://www.onsemi.cn/pub_link/Collateral/511AU.PDF
footprint ONSC-WDFN-16-511AU-01_V (SON, 16-Leads, Body 4x1.6mm, Pitch 0.5mm)
pins: 1 IN_1+ (io) "Bidirectional Clamp to ASIC (inside system)", 2 IN_1- (io) "Bidirectional Clamp to ASIC (inside system)", 3 IN_2+ (io) "Bidirectional Clamp to ASIC (inside system)", 4 IN_2- (io) "Bidirectional Clamp to ASIC (inside system)", 5 IN_3+ (io) "Bidirectional Clamp to ASIC (inside system)", 6 IN_3- (io) "Bidirectional Clamp to ASIC (inside system)", 7 IN_4+ (io) "Bidirectional Clamp to ASIC (inside system)", 8 IN_4- (io) "Bidirectional Clamp to ASIC (inside system)", 9 OUT_4- (io) "Bidirectional Clamp to Connector (outside system)", 10 OUT_4+ (io) "Bidirectional Clamp to Connector (outside system)", 11 OUT_3- (io) "Bidirectional Clamp to Connector (outside system)", 12 OUT_3+ (io) "Bidirectional Clamp to Connector (outside system)", 13 OUT_2- (io) "Bidirectional Clamp to Connector (outside system)", 14 OUT_2+ (io) "Bidirectional Clamp to Connector (outside system)", 15 OUT_1- (io) "Bidirectional Clamp to Connector (outside system)", 16 OUT_1+ (io) "Bidirectional Clamp to Connector (outside system)", 17 GND (power) "Ground return to shield"

## ESD5205P6T6G
designator U?
Transient Voltage Suppressor, Low Capacitance ESD Protection Diode for High Speed Data Line, 6-Pin SOT-963, Pb-Free, Tape and Reel; Manufacturer: On Semiconductor; PartNumber: ESD5205P6T6G; C Max (pF): 9; Direction: Bidirectional; IR Max (uA): 1; Number of Lines: 5; PPK Max (W): 18; V(BR) Min (V): 5.5; DatasheetVersion: Rev. 0; PackageVersion: Rev. E, 02/2010; PackageReference: SOT-963-6-527AD-01; PackageDescription: 6-Pin Small Outline Transistor, Body 1 x 0.8 mm, Pitch 0.35 mm; Supplier 1: Digi-Key; Supplier Part Number 1: ESD5205P6T6G-ND; Supplier 2: Newark; Supplier Part Number 2: 76T6018; Supplier 3: Mouser; Supplier Part Number 3: 863-ESD5205P6T6G; Packing: Tape and Reel; RoHS: Pb-Free; VRWM Max (V): 5; Mounting Technology: Surface Mount; ComponentLink1Description: Manufacturer URL; ComponentLink1URL: http://www.onsemi.com/; ComponentLink2Description: Datasheet; ComponentLink2URL: http://www.onsemi.cn/pub_link/Collateral/ESD5205-D.PDF; ComponentLink3Description: Package Specification; ComponentLink3URL: http://www.onsemi.cn/pub_link/Collateral/527AD.PDF
footprint ONSC-SOT-963-6-527AD-01_V (SOT23, 6-Leads, Body 1x0.8mm, Pitch 0.35mm)
pins: 1 K1, 2 A, 3 K2, 4 K3, 5 K4, 6 K5

## ESD5381MUT5G
designator D?
Transient Voltage Suppressor, Micro-Packaged Diode for ESD Protection, 2-Pin X3DFN, Pb-Free, Tape and Reel; Manufacturer: On Semiconductor; PartNumber: ESD5381MUT5G; C Max (pF): 13; Direction: Unidirectional; IR Max (uA): 0.1; Number of Lines: 1; V(BR) Min (V): 6.1; VRWM Max (V): 3; DatasheetVersion: Rev. 2; PackageVersion: Rev. O, 04/2011; PackageReference: X3DFN-2-152AF-01; PackageDescription: 2-Pin Small Outline No-Lead, Body 0.62 x 0.32 mm, Pitch 0.355 mm; Packing: Tape and Reel; RoHS: Pb-Free; Mounting Technology: Surface Mount; ComponentLink1Description: Manufacturer URL; ComponentLink1URL: http://www.onsemi.com/; ComponentLink2Description: Datasheet; ComponentLink2URL: http://www.onsemi.cn/pub_link/Collateral/ESD5381-D.PDF; ComponentLink3Description: Package Specification; ComponentLink3URL: http://www.onsemi.cn/pub_link/Collateral/152AF.PDF
footprint ONSC-X3DFN-2-152AF-01_V (Molded, 2-Leads, Body 0.62x0.32mm)
pins: 1 K, 2 A

## ESD5384NCTBG
designator U?
5-Line HDMI Control Line, ESD Protection, 9-Pin WLCSP, Pb-Free, Tape and Reel; Manufacturer: On Semiconductor; PartNumber: ESD5384NCTBG; Direction: Unidirectional; Number of Lines: 5; V(BR) Min (V): 6; DatasheetVersion: Rev. 0; PackageVersion: Rev. O, 10/2010; PackageReference: WLCSP-9-567CX-01; PackageDescription: 9-Ball Wafer Level Chip Scale Package, Body 1.14 x 1.14 mm, Pitch 0.4 mm; Supplier 1: Digi-Key; Supplier Part Number 1: ESD5384NCTBG-ND; Supplier 2: Mouser; Supplier Part Number 2: 863-ESD5384NCTBG; Packing: Tape and Reel; RoHS: Pb-Free; Mounting Technology: Surface Mount; ComponentLink1Description: Manufacturer URL; ComponentLink1URL: http://www.onsemi.com/; ComponentLink2Description: Datasheet; ComponentLink2URL: http://www.onsemi.cn/pub_link/Collateral/ESD5384-D.PDF; ComponentLink3Description: Package Specification; ComponentLink3URL: http://www.onsemi.cn/pub_link/Collateral/567CX.PDF
footprint ONSC-WLCSP-9-567CX-01 (BGA, 9-Balls, Body 1.14x1.14mm, Pitch 0.4mm)
pins: A1 5V (power), A2 CEC (io), A3 SCL (io), B1 RPU2 (power), B2 GND (power), B3 SDA (io), C1 RPU (power), C2 GND (power), C3 HPD

## ESD5481MUT5G
designator D?
Transient Voltage Suppressor, Micro-Packaged Diode for ESD Protection, 2-Pin X3DFN, Pb-Free, Tape and Reel; Manufacturer: On Semiconductor; PartNumber: ESD5481MUT5G; C Max (pF): 15; Direction: Bidirectional; IR Max (uA): 1; V(BR) Min (V): 5.7; VRWM Max (V): 5; DatasheetVersion: Rev. 1; PackageVersion: Rev. O, 04/2011; PackageReference: X3DFN-2-152AF-01; PackageDescription: 2-Pin Small Outline No-Lead, Body 0.62 x 0.32 mm, Pitch 0.355 mm; Supplier 1: Newark; Supplier Part Number 1: 07W6862; Supplier 2: Mouser; Supplier Part Number 2: 863-ESD5481MUT5G; Number of Lines: 1; Packing: Tape and Reel; RoHS: Pb-Free; Mounting Technology: Surface Mount; ComponentLink1Description: Manufacturer URL; ComponentLink1URL: http://www.onsemi.com/; ComponentLink2Description: Datasheet; ComponentLink2URL: http://www.onsemi.cn/pub_link/Collateral/ESD5481-D.PDF; ComponentLink3Description: Package Specification; ComponentLink3URL: http://www.onsemi.cn/pub_link/Collateral/152AF.PDF
footprint ONSC-X3DFN-2-152AF-01_V (Molded, 2-Leads, Body 0.62x0.32mm)
pins: 1 A1, 2 A2

## ESD5482MUT5G
designator D?
Transient Voltage Suppressor, Micro-Packaged Diode for ESD Protection, 2-Pin X3DFN, Pb-Free, Tape and Reel; Manufacturer: On Semiconductor; PartNumber: ESD5482MUT5G; C Max (pF): 7; Direction: Bidirectional; IR Max (uA): 0.05; Number of Lines: 1; V(BR) Min (V): 5; VRWM Max (V): 3.3; DatasheetVersion: Rev. 0; PackageVersion: Rev. O, 04/2011; PackageReference: X3DFN-2-152AF-01; PackageDescription: 2-Pin Small Outline No-Lead, Body 0.62 x 0.32 mm, Pitch 0.355 mm; Supplier 1: Newark; Supplier Part Number 1: 56W5219; Supplier 2: Mouser; Supplier Part Number 2: 863-ESD5482MUT5G; Packing: Tape and Reel; RoHS: Pb-Free; Mounting Technology: Surface Mount; ComponentLink1Description: Manufacturer URL; ComponentLink1URL: http://www.onsemi.com/; ComponentLink2Description: Datasheet; ComponentLink2URL: http://www.onsemi.cn/pub_link/Collateral/ESD5482-D.PDF; ComponentLink3Description: Package Specification; ComponentLink3URL: http://www.onsemi.cn/pub_link/Collateral/152AF.PDF
footprint ONSC-X3DFN-2-152AF-01_V (Molded, 2-Leads, Body 0.62x0.32mm)
pins: 1 A1, 2 A2

## ESD5484FCT5G
designator D?
Transient Voltage Suppressor, Micro-Packaged Diode for ESD Protection, 2-Pin WLCSP, Pb-Free, Tape and Reel; Manufacturer: On Semiconductor; PartNumber: ESD5484FCT5G; C Max (pF): 45; Direction: Bidirectional; IR Max (uA): 0.1; Number of Lines: 1; V(BR) Min (V): 6; VRWM Max (V): 5; DatasheetVersion: Rev. 2; PackageVersion: Rev. A, 10/2013; PackageReference: WLCSP-2-567AV-01; PackageDescription: 2-Ball Wafer Level Chip Scale Package, Body 0.6 x 0.3 mm, Pitch 0.36 mm; Supplier 1: Newark; Supplier Part Number 1: 72W1860; Supplier 2: Mouser; Supplier Part Number 2: 863-ESD5484FCT5G; Packing: Tape and Reel; RoHS: Pb-Free; Mounting Technology: Surface Mount; ComponentLink1Description: Manufacturer URL; ComponentLink1URL: http://www.onsemi.com/; ComponentLink2Description: Datasheet; ComponentLink2URL: http://www.onsemi.cn/pub_link/Collateral/ESD5484-D.PDF; ComponentLink3Description: Package Specification; ComponentLink3URL: http://www.onsemi.com/pub_link/Collateral/567AV.PDF
footprint ONSC-WLCSP-2-567AV-01_V (Molded, 2-Leads, Body 0.6x0.3mm, Pitch 0.48mm)
pins: 1 A1, 2 A2

## ESD7004MUTAG
designator U?
Transient Voltage Suppressor, Low Capacitance ESD Protection Diode for High Speed Data Line, 10-Pin UDFN, Pb-Free, Tape and Reel; Manufacturer: On Semiconductor; PartNumber: ESD7004MUTAG; Direction: Unidirectional; IR Max (uA): 1; Number of Lines: 4; V(BR) Min (V): 5.5; VRWM Max (V): 5; DatasheetVersion: Rev. 3; PackageVersion: Rev. O, 11/2009; PackageReference: UDFN-10-517BB-01; PackageDescription: 10-Pin Small Outline No-Lead, Body 2.5 x 1 mm, Pitch 0.5 mm; Supplier 1: Digi-Key; Supplier Part Number 1: ESD7004MUTAGOSTR-ND; Supplier 2: Digi-Key; Supplier Part Number 2: ESD7004MUTAGOSCT-ND; Supplier 3: Digi-Key; Supplier Part Number 3: ESD7004MUTAGOSDKR-ND; Supplier 4: Farnell; Supplier Part Number 4: 1961708; Supplier 5: Newark; Supplier Part Number 5: 52T7799; Supplier 6: Mouser; Supplier Part Number 6: 863-ESD7004MUTAG; Packing: Tape and Reel; RoHS: Pb-Free; Mounting Technology: Surface Mount; ComponentLink1Description: Manufacturer URL; ComponentLink1URL: http://www.onsemi.com/; ComponentLink2Description: Datasheet; ComponentLink2URL: http://www.onsemi.cn/pub_link/Collateral/ESD7004-D.PDF; ComponentLink3Description: Package Specification; ComponentLink3URL: http://www.onsemi.com/pub_link/Collateral/517BB.PDF
footprint ONSC-UDFN-10-517BB-01_V (SON, 10-Leads, Body 2.5x1mm, Pitch 0.5mm)
pins: 1 I/O, 2 I/O, 3 GND (power), 4 I/O, 5 I/O, 6 NC, 7 NC, 8 GND (power), 9 NC, 10 NC

## ESD7008MUTAG
designator U?
Transient Voltage Suppressor, Low Capacitance ESD Protection for High Speed Data, 18-Pin UDFN, Pb-Free, Tape and Reel; Manufacturer: On Semiconductor; PartNumber: ESD7008MUTAG; Direction: Bidirectional; IR Max (uA): 1; Number of Lines: 8; V(BR) Min (V): 5.5; VRWM Max (V): 5; DatasheetVersion: Rev. 4; PackageVersion: Rev. A, 12/2012; PackageReference: UDFN-18-517BV; PackageDescription: 18-Pin Small Outline No-Lead, Body 5.5 x 1.5 mm; Supplier 1: Digi-Key; Supplier Part Number 1: ESD7008MUTAG-ND; Supplier 2: Newark; Supplier Part Number 2: 65T1227; Supplier 3: Mouser; Supplier Part Number 3: 863-ESD7008MUTAG; Packing: Tape and Reel; RoHS: Pb-Free; Mounting Technology: Surface Mount; ComponentLink1Description: Manufacturer URL; ComponentLink1URL: http://www.onsemi.com/; ComponentLink2Description: Datasheet; ComponentLink2URL: http://www.onsemi.cn/pub_link/Collateral/ESD7008-D.PDF; ComponentLink3Description: Package Specification; ComponentLink3URL: http://www.onsemi.cn/pub_link/Collateral/517BV.PDF
footprint ONSC-UDFN-18-517BV_V (SON, 18-Leads, Body 5.5x1.5mm)
part A pins: 1 I/O, 2 I/O, 4 I/O, 5 I/O, 7 I/O, 8 I/O, 10 I/O, 11 I/O
part B pins: 3 GND (power), 6 GND (power), 9 GND (power), 13 GND (power), 15 GND (power), 17 GND (power)
part C pins: 12 NC, 14 NC, 16 NC, 18 NC, 19 NC, 20 NC, 21 NC

## ESD7016MUTAG
designator U?
Low Capacitance ESD Protection USB 3.0, 8-Pin UDFN, Pb-Free, Tape and Reel; Manufacturer: On Semiconductor; PartNumber: ESD7016MUTAG; C Max (pF): 0.2; Direction: Bidirectional; IR Max (uA): 1; Number of Lines: 6; V(BR) Min (V): 5.5; VRWM Max (V): 5; DatasheetVersion: Rev. 3; PackageVersion: Rev. O, 09/2011; PackageReference: UDFN-8-517CB; PackageDescription: 8-Pin Small Outline No-Lead, Body 3.3 x 1 mm, Pitch 0.4 mm; Supplier 1: Newark; Supplier Part Number 1: 07W3518; Supplier 2: Mouser; Supplier Part Number 2: 863-ESD7016MUTAG; Packing: Tape and Reel; RoHS: Pb-Free; Mounting Technology: Surface Mount; ComponentLink1Description: Manufacturer URL; ComponentLink1URL: http://www.onsemi.com/; ComponentLink2Description: Datasheet; ComponentLink2URL: http://www.onsemi.com/pub_link/Collateral/ESD7016-D.PDF; ComponentLink3Description: Package Specification; ComponentLink3URL: http://www.onsemi.com/pub_link/Collateral/517CB.PDF
footprint ONSC-UDFN-8-517CB_V (SON, 8-Leads, Body 3.3x1mm, Pitch 0.4mm)
pins: 1 I/O, 2 I/O, 3 VBUS/GND (power), 4 I/O, 5 I/O, 6 GND (power), 7 I/O, 8 I/O, 9 NC, 10 NC

## ESD7104MUTAG
designator U?
Transient Voltage Suppressor, Low Capacitance ESD Protection for High Speed Data, 10-Pin UDFN, Pb-Free, Tape and Reel; Manufacturer: On Semiconductor; PartNumber: ESD7104MUTAG; Direction: Bidirectional; IR Max (uA): 1; Number of Lines: 4; V(BR) Min (V): 5.5; VRWM Max (V): 5; DatasheetVersion: Rev. 2; PackageVersion: Rev. O, 11/2009; PackageReference: UDFN-10-517BB-01; PackageDescription: 10-Pin Small Outline No-Lead, Body 2.5 x 1 mm, Pitch 0.5 mm; Supplier 1: Digi-Key; Supplier Part Number 1: ESD7104MUTAGOSTR-ND; Supplier 2: Digi-Key; Supplier Part Number 2: ESD7104MUTAGOSCT-ND; Supplier 3: Digi-Key; Supplier Part Number 3: ESD7104MUTAGOSDKR-ND; Supplier 4: Newark; Supplier Part Number 4: 65T1228; Supplier 5: Mouser; Supplier Part Number 5: 863-ESD7104MUTAG; Packing: Tape and Reel; RoHS: Pb-Free; Mounting Technology: Surface Mount; ComponentLink1Description: Manufacturer URL; ComponentLink1URL: http://www.onsemi.com/; ComponentLink2Description: Datasheet; ComponentLink2URL: http://www.onsemi.cn/pub_link/Collateral/ESD7104-D.PDF; ComponentLink3Description: Package Specification; ComponentLink3URL: http://www.onsemi.com/pub_link/Collateral/517BB.PDF
footprint ONSC-UDFN-10-517BB-01_V (SON, 10-Leads, Body 2.5x1mm, Pitch 0.5mm)
pins: 1 I/O, 2 I/O, 3 GND (power), 4 I/O, 5 I/O, 6 NC, 7 NC, 8 GND (power), 9 NC, 10 NC

## ESD7381MUT5G
designator D?
Transient Voltage Suppressor, Micro-Packaged Diode for ESD Protection, 2-Pin X3DFN, Pb-Free, Tape and Reel; Manufacturer: On Semiconductor; PartNumber: ESD7381MUT5G; C Max (pF): 0.55; Direction: Unidirectional; IR Max (uA): 0.05; Number of Lines: 1; V(BR) Min (V): 5; VRWM Max (V): 3.3; DatasheetVersion: Rev. 4; PackageVersion: Rev. O, 04/2011; PackageReference: X3DFN-2-152AF-01; PackageDescription: 2-Pin Small Outline No-Lead, Body 0.62 x 0.32 mm, Pitch 0.355 mm; Supplier 1: Newark; Supplier Part Number 1: 45W8175; Supplier 2: Mouser; Supplier Part Number 2: 863-ESD7381MUT5G; Packing: Tape and Reel; RoHS: Pb-Free; Mounting Technology: Surface Mount; ComponentLink1Description: Manufacturer URL; ComponentLink1URL: http://www.onsemi.com/; ComponentLink2Description: Datasheet; ComponentLink2URL: http://www.onsemi.cn/pub_link/Collateral/ESD7381-D.PDF; ComponentLink3Description: Package Specification; ComponentLink3URL: http://www.onsemi.cn/pub_link/Collateral/152AF.PDF
footprint ONSC-X3DFN-2-152AF-01_V (Molded, 2-Leads, Body 0.62x0.32mm)
pins: 1 K, 2 A

## ESD7383NCTBG
designator U?
USB-OTG 3-Line Protection, 4-Pin WLCSP, Pb-Free, Tape and Reel; Manufacturer: On Semiconductor; PartNumber: ESD7383NCTBG; C Max (pF): 1.5; Direction: Bidirectional; IR Max (uA): 0.1; Number of Lines: 3; PPK Max (W): 50; V(BR) Min (V): 6; DatasheetVersion: Rev. 0; PackageVersion: Rev. O, 07/2010; PackageReference: WLCSP-4-567CB-01; PackageDescription: 4-Ball Wafer Level Chip Scale Package, Body 0.8 x 0.8 mm, Pitch 0.4 mm; Supplier 1: Digi-Key; Supplier Part Number 1: ESD7383NCTBG-ND; Supplier 2: Mouser; Supplier Part Number 2: 863-ESD7383NCTBG; Packing: Tape and Reel; RoHS: Pb-Free; Mounting Technology: Surface Mount; ComponentLink1Description: Manufacturer URL; ComponentLink1URL: http://www.onsemi.com/; ComponentLink2Description: Datasheet; ComponentLink2URL: http://www.onsemi.cn/pub_link/Collateral/ESD7383-D.PDF; ComponentLink3Description: Package Specification; ComponentLink3URL: http://www.onsemi.cn/pub_link/Collateral/567CB.PDF
footprint ONSC-WLCSP-4-567CB-01 (BGA, 4-Balls, Body 0.8x0.8mm, Pitch 0.4mm)
pins: A1 CH1 "ESD Channel 1", A2 GND (power) "Device Ground", B1 CH2 "ESD Channel 2", B2 CH3 "ESD Channel 3"

## ESD7481MUT5G
designator D?
Transient Voltage Suppressor, Micro-Packaged Diode for ESD Protection, 2-Pin X3DFN, Pb-Free, Tape and Reel; Manufacturer: On Semiconductor; PartNumber: ESD7481MUT5G; Direction: Bidirectional; IR Max (uA): 0.05; Number of Lines: 1; VRWM Max (V): 3.3; DatasheetVersion: Rev. 5; PackageVersion: Rev. O, 04/2011; PackageReference: X3DFN-2-152AF-01; PackageDescription: 2-Pin Small Outline No-Lead, Body 0.62 x 0.32 mm, Pitch 0.355 mm; Supplier 1: Newark; Supplier Part Number 1: 45W8176; Supplier 2: Mouser; Supplier Part Number 2: 863-ESD7481MUT5G; Packing: Tape and Reel; RoHS: Pb-Free; Mounting Technology: Surface Mount; ComponentLink1Description: Manufacturer URL; ComponentLink1URL: http://www.onsemi.com/; ComponentLink2Description: Datasheet; ComponentLink2URL: http://www.onsemi.cn/pub_link/Collateral/ESD7481-D.PDF; ComponentLink3Description: Package Specification; ComponentLink3URL: http://www.onsemi.cn/pub_link/Collateral/152AF.PDF
footprint ONSC-X3DFN-2-152AF-01_V (Molded, 2-Leads, Body 0.62x0.32mm)
pins: 1 A1, 2 A2

## ESD7484NCTAG
designator U?
4-Line Ultra-Large Bandwidth ESD Protection, 10-Pin WLCSP, Pb-Free, Tape and Reel; Manufacturer: On Semiconductor; PartNumber: ESD7484NCTAG; Direction: Bidirectional; IR Max (uA): 0.1; Number of Lines: 4; V(BR) Min (V): 6; DatasheetVersion: Rev. 0; PackageVersion: Rev. O, 05/2011; PackageReference: WLCSP-10-567DE-01; PackageDescription: 10-Ball Wafer Level Chip Scale Package, Body 1.6 x 1.1 mm; Supplier 1: Digi-Key; Supplier Part Number 1: ESD7484NCTAG-ND; Supplier 2: Newark; Supplier Part Number 2: 76T6021; Supplier 3: Mouser; Supplier Part Number 3: 863-ESD7484NCTAG; Packing: Tape and Reel; RoHS: Pb-Free; Mounting Technology: Surface Mount; ComponentLink1Description: Manufacturer URL; ComponentLink1URL: http://www.onsemi.com/; ComponentLink2Description: Datasheet; ComponentLink2URL: http://www.onsemi.cn/pub_link/Collateral/ESD7484-D.PDF; ComponentLink3Description: Package Specification; ComponentLink3URL: http://www.onsemi.cn/pub_link/Collateral/567DE.PDF
footprint ONSC-WLCSP-10-567DE-01 (BGA, 10-Balls, Body 1.6x1.1mm)
pins: A1 DIN_1+ (in), A3 DOUT_1+ (out), B2 GND (power), C1 DIN_1- (in), C3 DOUT_1- (out), D1 DIN_2+ (in), D3 DOUT_2+ (out), E2 GND (power), F1 DIN_2- (in), F3 DOUT_2- (out)